# Altium schematic symbol library cap_single_np.Schlib: 1 symbol
Pins are listed as number, name and electrical type; pins without a type are passive.

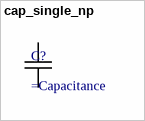
[diagram p0: symbol cap_single_np]

## cap_single_np
designator C?
pins: 1, 2